# EAGLE library part 74HC595 (library IC)
http://search.digikey.com/scripts/DkSearch/dksus.dll?lang=zh&site=CN&WT.z_homepage_link=hp_go_button&KeyWords=74HC595&x=19&y=17
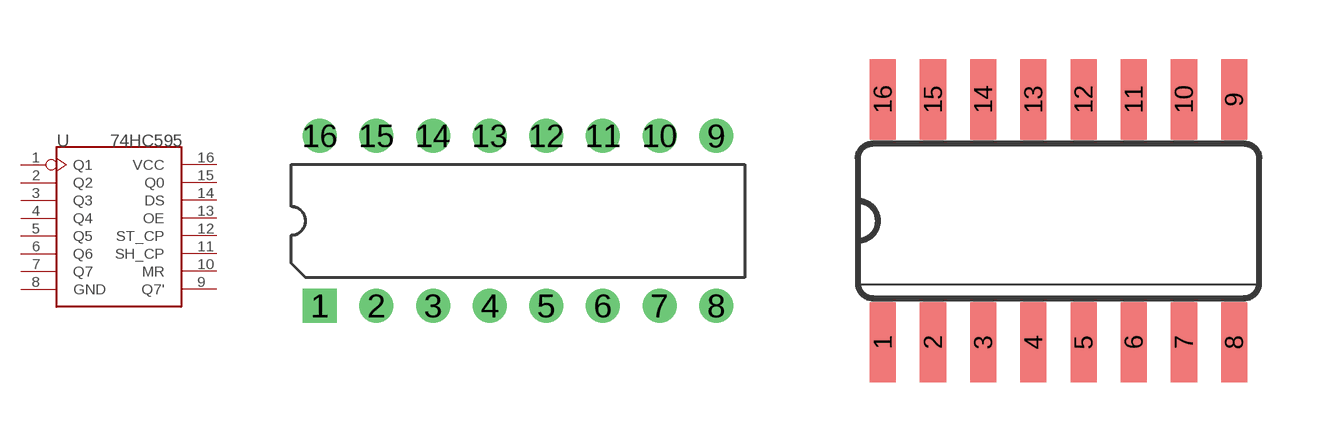
[diagram p3: symbol with the pads of DIP16; footprints DIP16, SO16]

Designator prefix U

## 74HC595VIA2X8  [DIP16]
1  Q1
2  Q2
3  Q3
4  Q4
5  Q5
6  Q6
7  Q7
8  GND
9  Q7'
10  MR
11  SH_CP
12  ST_CP
13  OE
14  DS
15  Q0
16  VCC

## 74HC595-SO16  [SO16]
Pads as for DIP16

## Footprint DIP16 (pad centres in mm)
drill 0.813 pad 1.524 square: 1 -8.636,-3.81
drill 0.813 pad 1.524: 2 -6.096,-3.81; 3 -3.556,-3.81; 4 -1.016,-3.81; 5 1.524,-3.81; 6 4.064,-3.81; 7 6.604,-3.81; 8 9.144,-3.81; 9 9.144,3.81; 10 6.604,3.81; 11 4.064,3.81; 12 1.524,3.81; 13 -1.016,3.81; 14 -3.556,3.81; 15 -6.096,3.81; 16 -8.636,3.81

## Footprint SO16 (pad centres in mm)
Small Outline package 150 mil
smd 0.66 x 2.032: 1 -4.445,-3.073; 2 -3.175,-3.073; 3 -1.905,-3.073; 4 -0.635,-3.073; 5 0.635,-3.073; 6 1.905,-3.073; 7 3.175,-3.073; 8 4.445,-3.073; 9 4.445,3.073; 10 3.175,3.073; 11 1.905,3.073; 12 0.635,3.073; 13 -0.635,3.073; 14 -1.905,3.073; 15 -3.175,3.073; 16 -4.445,3.073